# Altium footprint library TO254P1524X483-3N.PcbLib: 1 footprints
Each footprint in its own frame and in the unit in brackets; x right, y up, seen from the top. Pads: shape width x height; smd on the part's side, far side on the other; paste and mask are expansions set on the pad; w line width, h text height; cw(c..) or ccw(c..) is an arc to the next point about the centre after c.
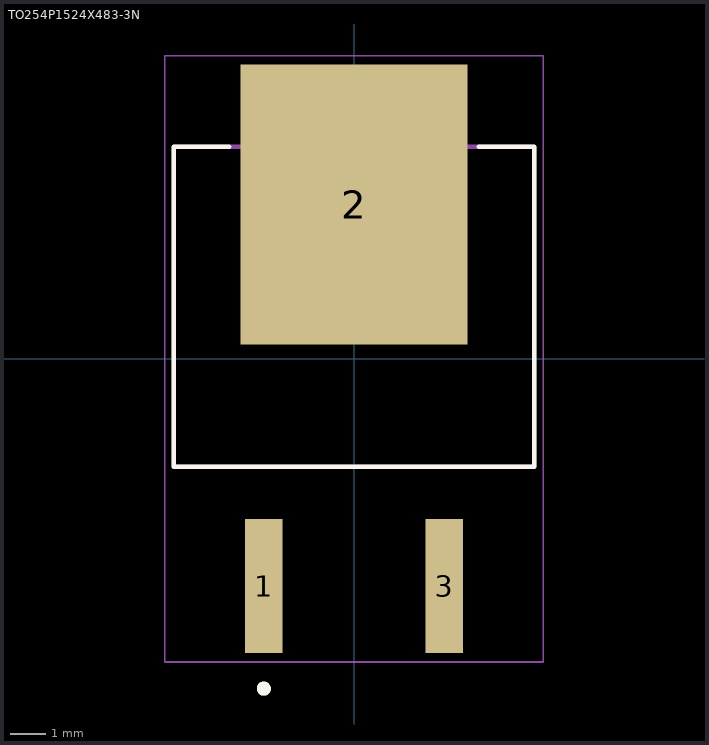
[diagram p0: the footprint, top view; thin cyan lines are the x and y axes]

## TO254P1524X483-3N [mm]
pads (3):
  rect 1.06x3.78 smd: 1(-2.54,-6.4) 3(2.54,-6.4)
  rect 6.39x7.88 smd paste-5: 2(0,4.35)
Top Overlay:
  circle w0.2: c-2.54,-9.29 r0.1
  lines w0.127: -3.515,5.973 -5.08,5.973 -5.08,-3.043 5.08,-3.043 5.08,5.973 3.515,5.973
Top Paste:
  region: 2.545,0.735 0.645,0.735 0.645,2.055 2.545,2.055
  region: 2.545,2.705 0.645,2.705 0.645,4.025 2.545,4.025
  region: 2.545,6.645 0.645,6.645 0.645,7.965 2.545,7.965
  region: 2.545,4.675 0.645,4.675 0.645,5.995 2.545,5.995
  region: -0.645,0.735 -2.545,0.735 -2.545,2.055 -0.645,2.055
  region: -0.645,2.705 -2.545,2.705 -2.545,4.025 -0.645,4.025
  region: -0.645,6.645 -2.545,6.645 -2.545,7.965 -0.645,7.965
  region: -0.645,4.675 -2.545,4.675 -2.545,5.995 -0.645,5.995
Mechanical 13:
  circle w0.2: c-2.54,-9.29 r0.1
  lines w0.127: -5.08,-3.043 -5.08,5.973 5.08,5.973 5.08,-3.043 -5.08,-3.043
Mechanical 15:
  lines w0.05: -5.33,-8.54 5.33,-8.54 5.33,8.54 -5.33,8.54 -5.33,-8.54
3D body "step_temp.STEP": height 4.83, standoff -0.25, extent -5.08,-7.62 5.08,7.62